# Altium footprint library PcbLib1.PcbLib: 8 footprints
Each footprint in its own frame and in the unit in brackets; x right, y up, seen from the top. Pads: shape width x height; smd on the part's side, far side on the other; paste and mask are expansions set on the pad; w line width, h text height; cw(c..) or ccw(c..) is an arc to the next point about the centre after c.
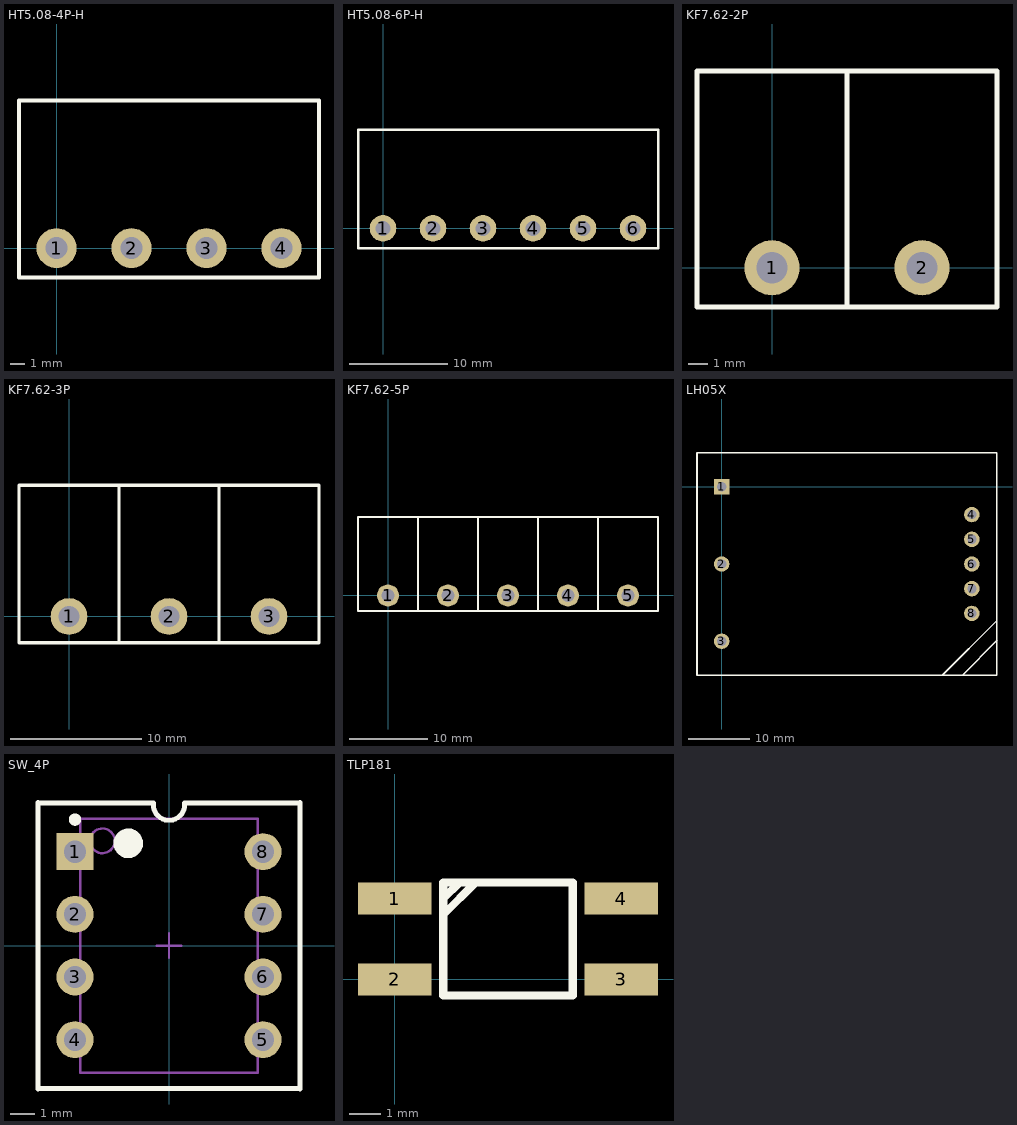
[diagram p0: the footprints below, top view; thin cyan lines are the x and y axes]

## HT5.08-4P-H [mm]
height 12
pads (4):
  round 2.7 hole 1.5: 1(0,0) 2(5.08,0) 3(10.16,0) 4(15.24,0)
Top Overlay:
  lines w0.254: -2.54,-2 17.78,-2 17.78,10 -2.54,10 -2.54,-2
3D body: height 12, standoff 0, extent -2.54,-2.032 17.78,10.033

## HT5.08-6P-H [mm]
height 12
pads (6):
  round 2.7 hole 1.5: 1(0,0) 2(5.08,0) 3(10.16,0) 4(15.24,0) 5(20.32,0) 6(25.4,0)
Top Overlay:
  lines w0.254: -2.54,-2 27.94,-2 27.94,10 -2.54,10 -2.54,-2
3D body: height 12, standoff 0, extent -2.54,-2.032 27.94,10.033

## KF7.62-2P [mm]
height 12.4
pads (2):
  round 2.8 hole 1.6: 1(0,0) 2(7.62,0)
Top Overlay:
  lines w0.254: 3.81,-2 3.81,10 ; -3.81,-2 -3.81,10 11.43,10 11.43,-2 -3.81,-2
3D body: height 12.4, standoff 0, extent -3.683,-1.905 11.303,9.906

## KF7.62-3P [mm]
height 12.4
pads (3):
  round 2.8 hole 1.6: 1(0,0) 2(7.62,0) 3(15.24,0)
Top Overlay:
  lines w0.254: 3.81,-2 3.81,10 ; 11.43,-2 11.43,10 ; -3.81,-2 -3.81,10 19.05,10 19.05,-2 -3.81,-2
3D body: height 12.4, standoff 0, extent -3.683,-1.905 18.923,9.906

## KF7.62-5P [mm]
height 12.4
pads (5):
  round 2.8 hole 1.6: 1(0,0) 2(7.62,0) 3(15.24,0) 4(22.86,0) 5(30.48,0)
Top Overlay:
  lines w0.254: 3.81,-2 3.81,10 ; 11.43,-2 11.43,10 ; 19.05,-2 19.05,10 ; 26.67,-2 26.67,10 ; -3.81,-2 34.29,-2 34.29,10 -3.81,10 -3.81,-2
3D body: height 12.4, standoff 0, extent -3.683,-1.905 34.163,9.906

## LH05X [mm]
height 20.5
pads (8):
  rect 2.5x2.5 hole 1.5: 1(0,0)
  round 2.5 hole 1.5: 2(0,-12.5) 3(0,-25) 4(40.5,-4.5) 5(40.5,-8.5) 6(40.5,-12.5) 7(40.5,-16.5) 8(40.5,-20.5)
Top Overlay:
  lines w0.254: 33.782,-30.5 35.717,-30.5 44.5,-21.717 ; 38.989,-30.5 44.563,-24.828 ; -4,-30.5 44.5,-30.5 44.5,5.5 -4,5.5 -4,-30.5
3D body: height 20.5, standoff 0, extent -3.937,-30.48 44.577,5.461

## SW_4P [mm] "DIP; 8 Leads; Row Spacing 7.62 mm; Pitch 2.54 mm"
height 9.5
pads (8):
  rect 1.5x1.5 hole 0.9: 1(-3.81,3.81)
  round 1.5 hole 0.9: 2(-3.81,1.27) 3(-3.81,-1.27) 4(-3.81,-3.81) 5(3.81,-3.81) 6(3.81,-1.27) 7(3.81,1.27) 8(3.81,3.81)
Top Overlay:
  circle w0.6: c-1.65,4.15 r0.3
  circle w0.25: c-3.81,5.11 r0.125
  lines w0.2: -5.317,-5.81 -5.317,5.81 ; -5.3,-5.785 5.3,-5.785 ; -5.3,5.785 -0.635,5.785 ; -0.635,5.715 ccw(c0,5.715) 0.635,5.715 ; 0.635,5.785 5.3,5.785 ; 5.317,-5.81 5.317,5.81
Mechanical 13:
  circle w0.1: c-2.7,4.25 r0.5
  lines w0.1: -3.6,-5.15 3.6,-5.15 3.6,5.15 -3.6,5.15 -3.6,-5.15
Mechanical 15:
  lines w0.1: -0.5,0 0.5,0 ; 0,-0.5 0,0.5
3D body: height 9.8, standoff 0, extent -5.334,-5.715 5.334,5.715

## TLP181 [mm]
height 3
pads (4):
  rect 2.3x1 smd: 1(0,2.54) 2(0,0) 3(7.112,0) 4(7.112,2.54)
Top Overlay:
  lines w0.254: 2.032,3.048 1.524,2.54 1.524,2.032 2.54,3.048 ; 1.524,-0.508 5.588,-0.508 5.588,3.048 1.524,3.048 1.524,-0.508